# EAGLE library part MSH1602A (library Display - LCD 2 x 16 MSH1602A)
2 Zeilen Display a 16 Zeichen ! "MSH1602A"
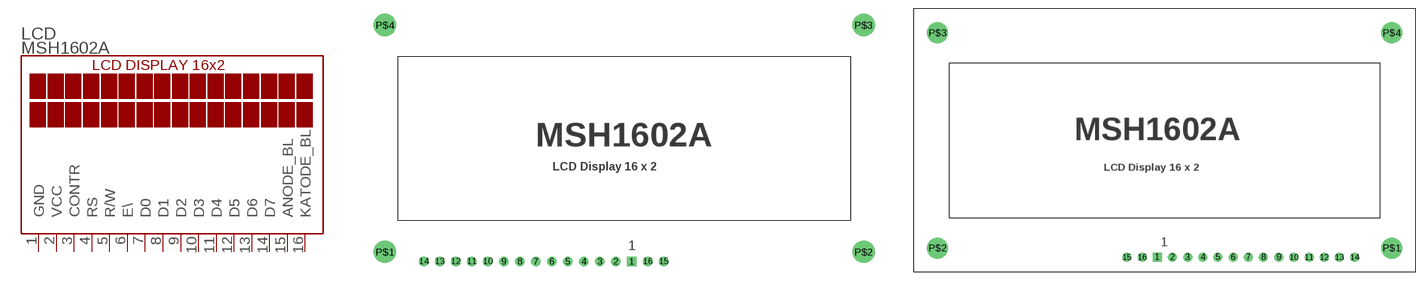
[diagram p0: symbol with the pads of MSH1602A; footprints MSH1602A, MSH1602A_GESPIEGELT]

Designator prefix LCD

## MSH1602A1  [MSH1602A]
1  GND  pwr
2  VCC  pwr
3  CONTR  pwr
4  RS  in
5  R/W  in
6  E\  in
7  D0  in
8  D1  in
9  D2  in
10  D3  in
11  D4  in
12  D5  in
13  D6  in
14  D7  in
15  ANODE_BL  in
16  KATODE_BL  in

## MSH1602A2  [MSH1602A_GESPIEGELT]
Pads as for MSH1602A

## Footprint MSH1602A (pad centres in mm)
Display 16 Zeichen 2 Zeilen Bestückart: THT
drill 1 square: 1 2.49,-16.96
drill 1: 2 -0.05,-16.96; 3 -2.59,-16.96; 4 -5.13,-16.96; 5 -7.67,-16.96; 6 -10.21,-16.96; 7 -12.75,-16.96; 8 -15.29,-16.96; 9 -17.83,-16.96; 10 -20.37,-16.96; 11 -22.91,-16.96; 12 -25.45,-16.96; 13 -27.99,-16.96; 14 -30.53,-16.96; 15 7.57,-16.96; 16 5.03,-16.96
drill 2.5: P$1 -36.73,-15.46; P$2 39.27,-15.46; P$3 39.27,20.54; P$4 -36.73,20.54

## Footprint MSH1602A_GESPIEGELT (pad centres in mm)
drill 1 square: 1 0.05,-18.23
drill 1: 2 2.59,-18.23; 3 5.13,-18.23; 4 7.67,-18.23; 5 10.21,-18.23; 6 12.75,-18.23; 7 15.29,-18.23; 8 17.83,-18.23; 9 20.37,-18.23; 10 22.91,-18.23; 11 25.45,-18.23; 12 27.99,-18.23; 13 30.53,-18.23; 14 33.07,-18.23; 15 -5.03,-18.23; 16 -2.49,-18.23
drill 2.5: P$1 39.27,-16.73; P$2 -36.73,-16.73; P$3 -36.73,19.27; P$4 39.27,19.27